# Altium footprint library 3362S.PcbLib: 1 footprints
Each footprint in its own frame and in the unit in brackets; x right, y up, seen from the top. Pads: shape width x height; smd on the part's side, far side on the other; paste and mask are expansions set on the pad; w line width, h text height; cw(c..) or ccw(c..) is an arc to the next point about the centre after c.
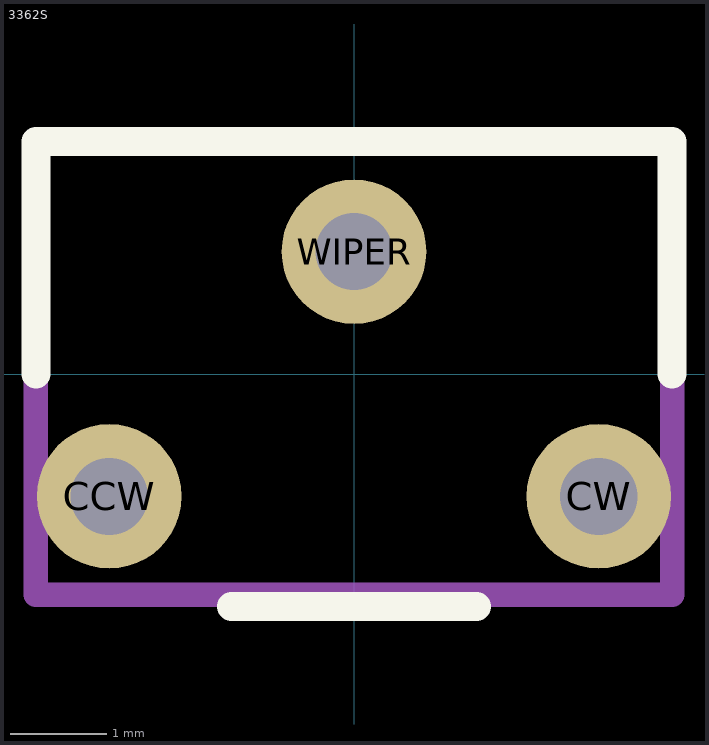
[diagram p0: the footprint, top view; thin cyan lines are the x and y axes]

## 3362S [mm]
pads (3):
  round 1.5 hole 0.8: CCW(-2.54,-1.27) CW(2.54,-1.27) WIPER(0,1.27)
Top Overlay:
  lines w0.3: -3.302,0 -3.302,2.413 0,2.413 3.302,2.413 3.302,0 ; -1.27,-2.413 1.27,-2.413
Mechanical 13:
  lines w0.254: -3.302,2.41 -3.302,-2.29 3.302,-2.29 3.302,2.41 -3.3,2.41
  text ".Designator" at -2.921,2.413 h2.5
3D body: height 7.1, standoff 0.06, extent -3.404,-2.337 3.302,2.591